# Altium schematic symbol library MECHANICAL.Schlib: 1 symbol
Pins are listed as number, name and electrical type; pins without a type are passive.

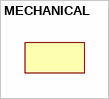
[diagram p0: symbol MECHANICAL]

## MECHANICAL
designator MECH?  (mechanical)